# Altium footprint library Fuse.PcbLib: 2 footprints
Each footprint in its own frame and in the unit in brackets; x right, y up, seen from the top. Pads: shape width x height; smd on the part's side, far side on the other; paste and mask are expansions set on the pad; w line width, h text height; cw(c..) or ccw(c..) is an arc to the next point about the centre after c.
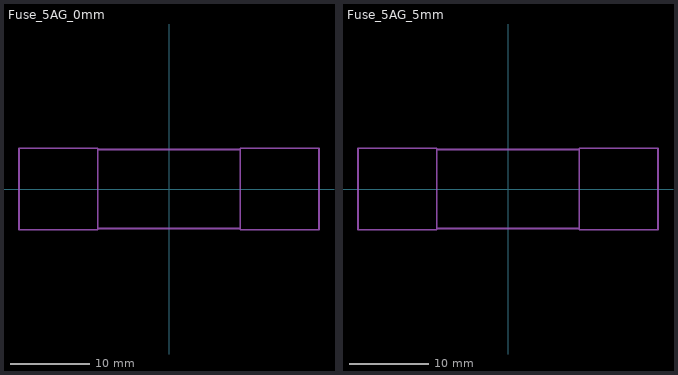
[diagram p0: the footprints below, top view; thin cyan lines are the x and y axes]

## Fuse_5AG_0mm [mm] "Fuse 5AG, 0mm distance from PCB"
Top Assembly:
  lines w0.2: -9,-5 9,-5 ; -9,5 9,5 ; -19,-5.15 -19,5.15 -9,5.15 -9,-5.15 -19,-5.15 ; 9,-5.15 9,5.15 19,5.15 19,-5.15 9,-5.15
3D body: height 10.15, standoff 0.15, extent -9,-5 9,5
3D body: height 10.3, standoff 0, extent 9,-5.15 19,5.15
3D body: height 10.3, standoff 0, extent -19,-5.15 -9,5.15

## Fuse_5AG_5mm [mm] "Fuse 5AG, 5mm distance from PCB"
Top Assembly:
  lines w0.2: -9,-5 9,-5 ; -9,5 9,5 ; -19,-5.15 -19,5.15 -9,5.15 -9,-5.15 -19,-5.15 ; 9,-5.15 9,5.15 19,5.15 19,-5.15 9,-5.15
3D body: height 15.15, standoff 5.15, extent -9,-5 9,5
3D body: height 15.3, standoff 5, extent 9,-5.15 19,5.15
3D body: height 15.3, standoff 5, extent -19,-5.15 -9,5.15